# Altium integrated library All_Library1.IntLib: 44 symbols
Pins are listed as number, name and electrical type; pins without a type are passive.

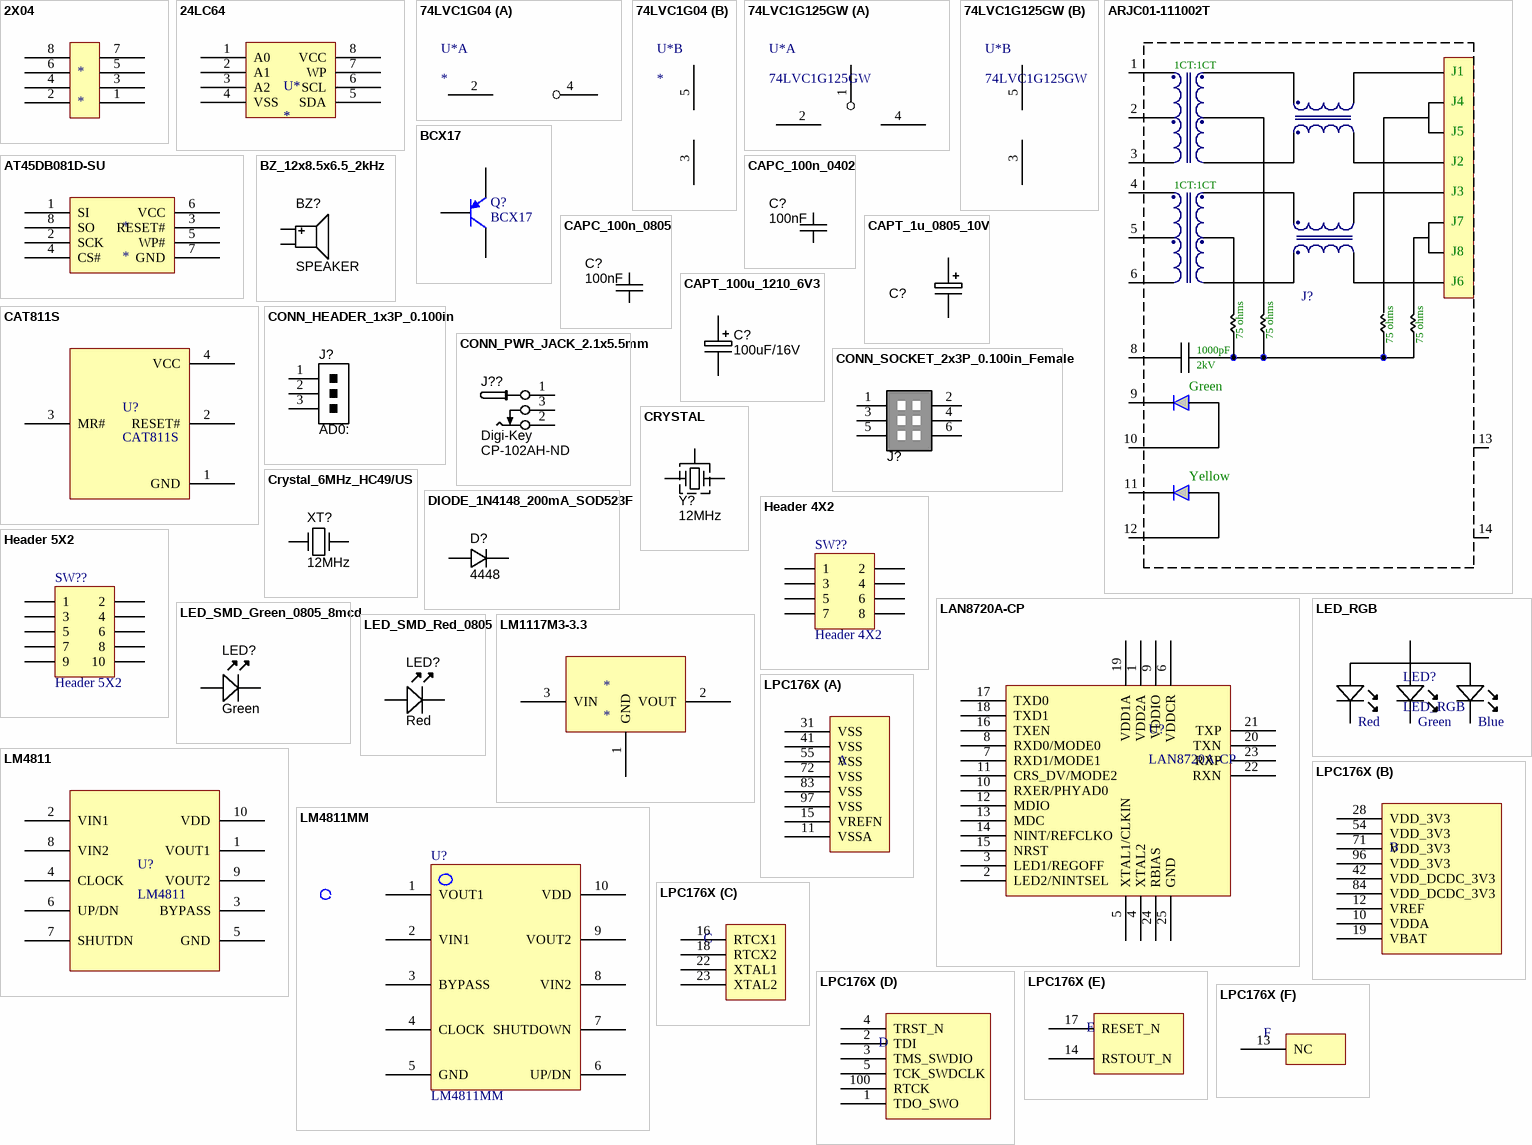
[diagram p0: symbols 2X04 to LPC176X]

## 2X04
designator *
pins: 1, 2, 3, 4, 5, 6, 7, 8

## 24LC64
designator U*
footprint TSSOP-ST8_M (TSOP, 8-Leads, Body 3x4.4mm, Pitch 0.65mm, IPC Low Density)
pins: 1 A0, 2 A1, 3 A2, 4 VSS, 5 SDA, 6 SCL, 7 WP, 8 VCC

## 74LVC1G04
designator U*
footprint SC70-LT5_N (SOT353, 5-Leads, Body 2x1.3mm, Pitch 0.65mm, Lead Span 2.1mm, IPC Medium Density)
part A pins: 2, 4
part B pins: 3 GND, 5 VCC

## 74LVC1G125GW
designator U*
footprint SC70-LT5_N (SOT353, 5-Leads, Body 2x1.3mm, Pitch 0.65mm, Lead Span 2.1mm, IPC Medium Density)
part A pins: 1 ~{OE}, 2 A, 4 Y
part B pins: 3 GND, 5 VCC

## ARJC01-111002T
designator J?
10/100 Base-Tx Tap Up RJ45 with LED
footprint ARJC01-111002T
pins: 1 TD+, 2 CTD, 3 TD-, 4 RD+, 5 CRD, 6 RD-, 8 Shield, 9, 10, 11, 12, 13 GND, 14 GND
text: 1CT:1CT; J1; J4; J5; J2; J3; J7; J8; J6; 75 ohms; 1000pF; 2kV; Green; Yellow

## AT45DB081D-SU
designator *
footprint TSSOP-ST8_N (TSOP, 8-Leads, Body 3x4.4mm, Pitch 0.65mm, IPC Medium Density)
pins: 1 SI, 2 SCK, 3 RESET#, 4 CS#, 5 WP#, 6 VCC, 7 GND, 8 SO

## BCX17
designator Q?
PNP General Purpose Transistors; Published: 8-Jun-2000; LatestRevisionDate: 15-Jan-2003; LatestRevisionNote: PCB Footprint 'BCY-W3/D4.7' replaced; DatasheetVersion: 1997; PackageVersion: Sep-1998; PackageReference: TO-92A; Publisher: Altium Limited; PackageDescription: TO, Flat Index; 3 In-Line, Axial Leads; Body Dia. 4.5mm; Leads 0.51 x 0.48 mm (max); ComponentLink1Description: Manufacturer Link; ComponentLink1URL: http://www.fairchildsemi.com/; ComponentLink2Description: Datasheet; ComponentLink2URL: http://www.fairchildsemi.com/ds/2N%2F2N3906.pdf
footprint SOT23-3N (SOT23, 3-Leads, Body 2.9x1.3mm, Pitch 0.95mm, Lead Span 2.5mm, IPC Medium Density)
pins: 1 B, 2 E, 3 C

## BZ_12x8.5x6.5_2kHz
designator BZ?, comment Manufacturer Part Number 1: SPEAKER  (hidden comment: Alternate part: 3100-932)
Speaker, Magnetic Transducer; Manufacturer 1: CUI Inc; Ratings: 2048 ?00 Hz; Package / Case: 6.5mm pitch; Material: Noryl SE1-J; Supplier 1: Digi-Key; Supplier Part Number 1: 102-1152-ND
footprint BUZZER_12.0X8.5MM
pins: 1 Positive, 2 Negative

## CAPC_100n_0402
designator C?, comment value 100nF  (hidden comment: approved sub OK)
Capacitor SMD Cer 100nF 10% 50V X7R 0805; Manufacturer 1: Kemet; Manufacturer Part Number 1: C0805C104K5RACTU; Tolerance: ?0%; Ratings: 50V; X7R; Material: ceramic; Package / Case: 0805 (2012 metric); Supplier 1: Digi-Key; Supplier Part Number 1: 399-1170-1-ND
footprint CAPC1005N (Chip Capacitor, Body 1.0x0.5mm, 0402, IPC Medium Density)
pins: 1, 2

## CAPC_100n_0805
designator C?, comment value 100nF  (hidden comment: approved sub OK)
Capacitor SMD Cer 100nF 10% 50V X7R 0805; Manufacturer 1: Kemet; Manufacturer Part Number 1: C0805C104K5RACTU; Tolerance: ?0%; Ratings: 50V; X7R; Material: ceramic; Package / Case: 0805 (2012 metric); Supplier 1: Digi-Key; Supplier Part Number 1: 399-1170-1-ND
footprint CAPC2012N (Chip Capacitor, Body 2.0x1.2mm, IPC Medium Density)
pins: 1, 2

## CAPT_1u_0805_10V
designator C?
Capacitor SMD Tantalum 1uF 20% 10V 0805; Manufacturer 1: AVX Corporation; Manufacturer Part Number 1: TAJP106M010RNJ; Manufacturer Size Code: P; Tolerance: ?0%; ESR (Equivalent Series Resistance): 6.000 Ohm; Type: Molded; Package / Case: 0805 (2012 metric); Material: Tantalum; Supplier 1: Digi-Key; Supplier Part Number 1: 478-3281-1-ND; Operating Temperat: -55蚓 ~ 125蚓; Size / Dimension: 0.081" L x 0.053" W (2.05mm x 1.35mm); Height - Seated (Max): 0.059" (1.50mm); ComponentLink1URL: http://www.avx.com/docs/Catalogs/tajlp.pdf; ComponentLink1Description: http://www.avx.com/docs/Catalogs/tajlp.pdf
footprint CAPMP2012X150USR (Molded body capacitor, Body 2.0x1.2mm, 0805, IPC Medium Density)
pins: 1, 2

## CAPT_100u_1210_6V3
designator C?
Capacitor SMD Tantalum 100uF 20% 6.3V 1210; Manufacturer 1: AVX Corporation; Manufacturer Part Number 1: TCJB107M006R0045; Tolerance: ?0%; Package / Case: 1210 (3528 Metric); Material: Tantalum; Supplier 1: Digi-Key; Supplier Part Number 1: 478-4711-1-ND
footprint CAPMP3528X210N (Molded body capacitor, Body 3.5x2.8mm, 1210, IPC Nominal settings)
pins: 1, 2
text: 100uF/16V

## CAT811S
designator U?
footprint SOT-143-R (SOT-143; 4 Leads; Body 3 x 2.6 mm, inc. leads (LxW max))
pins: 1 GND, 2 RESET#, 3 MR#, 4 VCC

## CONN_HEADER_1x3P_0.100in
designator J?  (value not drawn)
Pin Header, THT, Single-row, 2.54mm pitch; Manufacturer 1: 3M; Manufacturer Part Number 1: 929647-09-36-I; Pitch: 0.100" (2.54mm); Value: Single-row, 3 positions; QtyOverride: 0.1; Category: Connectors; Mounting Type: Through Hole; Terminal Block Type: Header, Male Pins, Single; Package / Case: Pin header; 2.54mm pitch
footprint 1x3POS_HEADER (Connector Header, Single-row 3-position, 0.100" pitch)
pins: 1, 2, 3

## CONN_PWR_JACK_2.1x5.5mm
designator J??  Supplier 1: Digi-Key  Supplier Part Number 1: CP-102AH-ND  (hidden comment: CONN_PWR_JACK_2.1x5.5mm)
Power Connector, THT, 2.1mm ID, 5.5mm OD; Manufacturer 1: CUI Inc; Manufacturer Part Number 1: PJ-102AH; Category: Connectors; Mounting Type: Through Hole; Package / Case: PCB mount; Value: 2.1mm ID, 5.5mm OD
footprint CONN_PWR_JACK_2.1x5.5mm (Power Connector, 2.1mm ID, 5.5mm OD)
pins: 1, 2, 3

## CONN_SOCKET_2x3P_0.100in_Female
designator J?, comment micro-match socket  (value not drawn)
Socket THD 6 POS Double-row 2.54mm pitch; Manufacturer 1: TE Connectivity; Manufacturer Part Number 1: 7-215079-6; Pitch: 0.100" (2.54mm); Value: Double-row, 14 positions; QtyOverride: 1; Connector Type: Receptacle; Number of Positions: 6; Package / Case: Connector header; 2.54mm pitch; Contact Type: Female Socket; Number of Rows: 2; Row Spacing: 0.100" (2.54mm); Contact Mating Length: 0.243" (6.17mm); ComponentLink1URL: http://multimedia.3m.com/mws/mediawebserver?66666UuZjcFSLXTtm8T_oxMcEVuQEcuZgVs6EVs6E666666--; ComponentLink1Description: http://multimedia.3m.com/mws/mediawebserver?66666UuZjcFSLXTtm8T_oxMcEVuQEcuZgVs6EVs6E666666--; Supplier 1: Digi-Key; Supplier Part Number 1: A30729CT-ND
footprint 6P_PCB_SOCKET_BRD_MNT_MICRO-MATCH (SOCKET MICRO-MATCH BRD MNT 6POS 2.54MM)
pins: 1, 2, 3, 4, 5, 6

## CRYSTAL
designator Y?, comment 12MHz
Oscillator Crystal; Manufacturer 1: TXC CORPORATION; Manufacturer Part Number 1: 7M-27.120MEEQ-T; Ratings: 4.9152 MHz Crystal; Frequency Stability: ?0ppm; Load Capacitance: 10pF; Operating Mode: Fundamental; Package / Case: 2.5mm pitch; Material: Ceramic; Supplier 1: Digi-Key; Supplier Part Number 1: 887-1329-1-ND; Type: MHz Crystal; Frequency Tolerance: ?0ppm; Operating Temperature: -20蚓 ~ 70蚓; Mounting Type: Surface Mount; Size / Dimension: 0.126" L x 0.098" W (3.20mm x 2.50mm); ComponentLink1URL: http://www.txccrystal.com/images/pdf/7m-accuracy.pdf; ComponentLink1Description: http://www.txccrystal.com/images/pdf/7m-accuracy.pdf
footprint 9HT7-32.768KDZF-T
pins: 1 X, 2 GND, 3 GND, 4 X

## Crystal_6MHz_HC49/US
designator XT?, comment 12MHz
Resonator Ceramic 6.00 MHz 30ppm; Manufacturer 1: CTS-Frequency Controls; Manufacturer Part Number 1: ATS060BSM-1; Frequency: 6MHz; Frequency Stability: ?0ppm; Load Capacitance: 18pF; Operating Mode: Fundamental; Parameter Name: 0.169" (4.30mm); Package / Case: HC49/US-SM; Ratings: 6.00 MHz; Supplier 1: Digi-Key; Supplier Part Number 1: CTX882CT-ND; Type: MHz Crystal; Frequency Tolerance: ?0ppm; Operating Temperature: -20蚓 ~ 70蚓; Mounting Type: Surface Mount; Size / Dimension: 0.437" L x 0.190" W (11.10mm x 4.83mm); ComponentLink1URL: http://www.ctscorp.com/components/Datasheets/008-0309-0.pdf; ComponentLink1Description: http://www.ctscorp.com/components/Datasheets/008-0309-0.pdf
footprint CRYSTAL_HC49-US-SM (SMD Crystal HC49/US-SM package)
pins: 1 IN, 2 OUT

## DIODE_1N4148_200mA_SOD523F
designator D?, comment 4448
Diode SMD small signal 0.2A SOD-523F; Ratings: Vr=75V; Vf=1V@10mA; Io=200mA; Material: Si; Package / Case: SC-79, SOD-523F; Supplier 1: Digi-Key; Supplier Part Number 1: 1N4148WTCT-ND; Value: 4448
footprint SOD523F (SOD-523F; 2 Leads; Body 1.3 x 0.9 mm, (LxW))
pins: A, K

## Header 4X2
designator SW??
Header, 4-Pin, Dual row; LatestRevisionDate: 17-Jul-2002; LatestRevisionNote: Re-released for DXP Platform.; Publisher: Altium Limited
footprint HDR2X4 (Connector; Header; 4x2 Position)
pins: 1, 2, 3, 4, 5, 6, 7, 8

## Header 5X2
designator SW??
Header, 5-Pin, Dual row; LatestRevisionDate: 17-Jul-2002; LatestRevisionNote: Re-released for DXP Platform.; Publisher: Altium Limited
footprint HDR2X5 (Connector; Header; 5x2 Position)
pins: 1, 2, 3, 4, 5, 6, 7, 8, 9, 10

## LAN8720A-CP
designator U?
footprint QFN-MJ24 (QFN, 24-Leads, Body 4x4mm, Pitch 0.5mm, Thermal Pad 2.6x2.6mm, Microchip Recommended)
pins: 1 VDD2A, 2 LED2/NINTSEL, 3 LED1/REGOFF, 4 XTAL2, 5 XTAL1/CLKIN, 6 VDDCR, 7 RXD1/MODE1, 8 RXD0/MODE0, 9 VDDIO, 10 RXER/PHYAD0, 11 CRS_DV/MODE2, 12 MDIO, 13 MDC, 14 NINT/REFCLKO, 15 NRST, 16 TXEN, 17 TXD0, 18 TXD1, 19 VDD1A, 20 TXN, 21 TXP, 22 RXN, 23 RXP, 24 RBIAS, 25 GND

## LED_RGB
designator LED?
footprint 4-PLCC (LED_RGB)
pins: B, G, R, VCC
text: Red; Green; Blue

## LED_SMD_Green_0805_8mcd
designator LED?, comment Green
LED, 0805 SMD, Green; Manufacturer 1: Ligitek; Manufacturer Part Number 1: LG-170PG-CT; Material: GaP; Ratings: 8 mcd; 558 nm; Package / Case: 0805
footprint LED-0805-K
pins: A, K

## LED_SMD_Red_0805
designator LED?, comment Red
LED, 0805 SMD, Red; Manufacturer 1: Ligitek; Manufacturer Part Number 1: LG170SR-CT; Material: GaAIAs; Ratings: 20 mcd; 643 nm; Package / Case: 0805
footprint LED-0805-A
pins: A, K

## LM1117M3-3.3
designator *
footprint SOT-223 (SOT-223/SC-73; 4 Leads; Body 6.7 x 7.3 mm, inc. leads (LxW max))
pins: 1 GND, 2 VOUT, 3 VIN

## LM4811
designator U?
footprint MSOP-UN10_M (TSSOP, 10-Leads, Body 3x3mm, Pitch 0.5mm, IPC Low Density)
pins: 1 VOUT1, 2 VIN1, 3 BYPASS, 4 CLOCK, 5 GND, 6 UP/DN, 7 SHUTDN, 8 VIN2, 9 VOUT2, 10 VDD

## LM4811MM
designator U?
footprint MSOP-UN10_N (TSSOP, 10-Leads, Body 3x3mm, Pitch 0.5mm, IPC Medium Density)
pins: 1 VOUT1, 2 VIN1, 3 BYPASS, 4 CLOCK, 5 GND, 6 UP/DN, 7 SHUTDOWN, 8 VIN2, 9 VOUT2, 10 VDD

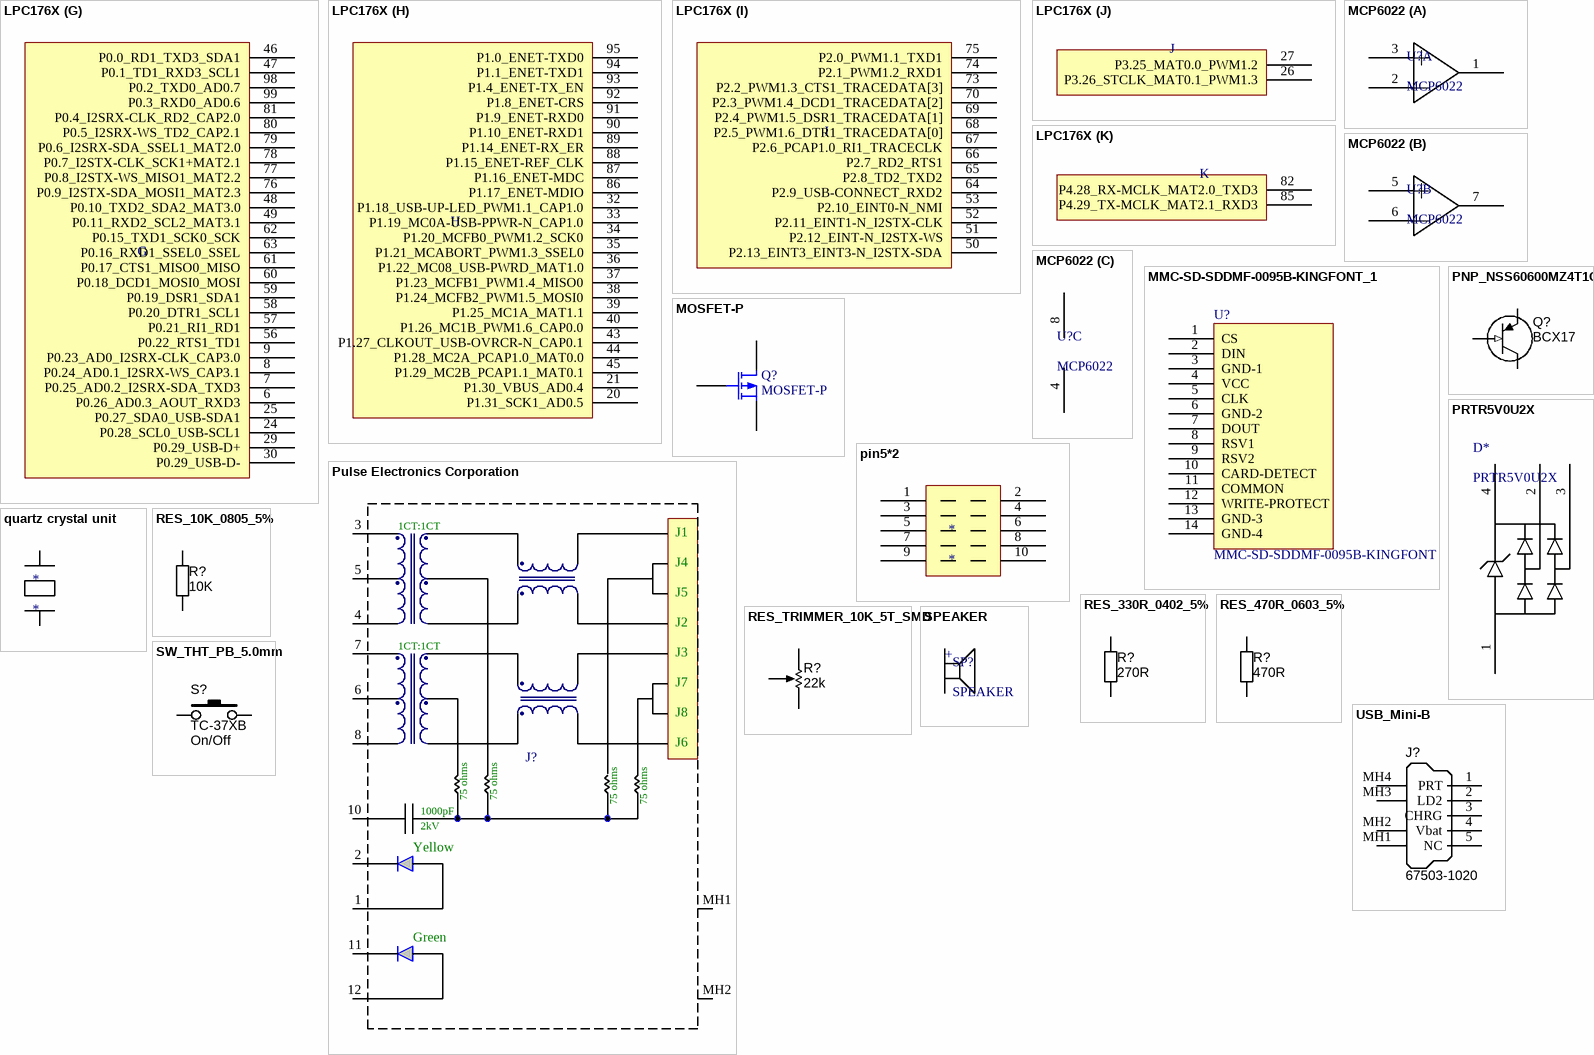
[diagram p1: symbols LPC176X to USB_Mini-B]

## LPC176X
designator ?
footprint SOT407-1_N (Thin QFP, 100-Leads, Body 14x14mm, Pitch 0.5mm, IPC Medium Density)
part A pins: 11 VSSA, 15 VREFN, 31 VSS, 41 VSS, 55 VSS, 72 VSS, 83 VSS, 97 VSS
part B pins: 10 VDDA, 12 VREF, 19 VBAT, 28 VDD_3V3, 42 VDD_DCDC_3V3, 54 VDD_3V3, 71 VDD_3V3, 84 VDD_DCDC_3V3, 96 VDD_3V3
part C pins: 16 RTCX1, 18 RTCX2, 22 XTAL1, 23 XTAL2
part D pins: 1 TDO_SWO, 2 TDI, 3 TMS_SWDIO, 4 TRST_N, 5 TCK_SWDCLK, 100 RTCK
part E pins: 14 RSTOUT_N, 17 RESET_N
part F pins: 13 NC
part G pins: 6 P0.26_AD0.3_AOUT_RXD3, 7 P0.25_AD0.2_I2SRX-SDA_TXD3, 8 P0.24_AD0.1_I2SRX-WS_CAP3.1, 9 P0.23_AD0_I2SRX-CLK_CAP3.0, 24 P0.28_SCL0_USB-SCL1, 25 P0.27_SDA0_USB-SDA1, 29 P0.29_USB-D+, 30 P0.29_USB-D-, 46 P0.0_RD1_TXD3_SDA1, 47 P0.1_TD1_RXD3_SCL1, 48 P0.10_TXD2_SDA2_MAT3.0, 49 P0.11_RXD2_SCL2_MAT3.1, 56 P0.22_RTS1_TD1, 57 P0.21_RI1_RD1, 58 P0.20_DTR1_SCL1, 59 P0.19_DSR1_SDA1, 60 P0.18_DCD1_MOSI0_MOSI, 61 P0.17_CTS1_MISO0_MISO, 62 P0.15_TXD1_SCK0_SCK, 63 P0.16_RXD1_SSEL0_SSEL, 76 P0.9_I2STX-SDA_MOSI1_MAT2.3, 77 P0.8_I2STX-WS_MISO1_MAT2.2, 78 P0.7_I2STX-CLK_SCK1+MAT2.1, 79 P0.6_I2SRX-SDA_SSEL1_MAT2.0, 80 P0.5_I2SRX-WS_TD2_CAP2.1, 81 P0.4_I2SRX-CLK_RD2_CAP2.0, 98 P0.2_TXD0_AD0.7, 99 P0.3_RXD0_AD0.6
part H pins: 20 P1.31_SCK1_AD0.5, 21 P1.30_VBUS_AD0.4, 32 P1.18_USB-UP-LED_PWM1.1_CAP1.0, 33 P1.19_MC0A-USB-PPWR-N_CAP1.0, 34 P1.20_MCFB0_PWM1.2_SCK0, 35 P1.21_MCABORT_PWM1.3_SSEL0, 36 P1.22_MC08_USB-PWRD_MAT1.0, 37 P1.23_MCFB1_PWM1.4_MISO0, 38 P1.24_MCFB2_PWM1.5_MOSI0, 39 P1.25_MC1A_MAT1.1, 40 P1.26_MC1B_PWM1.6_CAP0.0, 43 P1.27_CLKOUT_USB-OVRCR-N_CAP0.1, 44 P1.28_MC2A_PCAP1.0_MAT0.0, 45 P1.29_MC2B_PCAP1.1_MAT0.1, 86 P1.17_ENET-MDIO, 87 P1.16_ENET-MDC, 88 P1.15_ENET-REF_CLK, 89 P1.14_ENET-RX_ER, 90 P1.10_ENET-RXD1, 91 P1.9_ENET-RXD0, 92 P1.8_ENET-CRS, 93 P1.4_ENET-TX_EN, 94 P1.1_ENET-TXD1, 95 P1.0_ENET-TXD0
part I pins: 50 P2.13_EINT3_EINT3-N_I2STX-SDA, 51 P2.12_EINT-N_I2STX-WS, 52 P2.11_EINT1-N_I2STX-CLK, 53 P2.10_EINT0-N_NMI, 64 P2.9_USB-CONNECT_RXD2, 65 P2.8_TD2_TXD2, 66 P2.7_RD2_RTS1, 67 P2.6_PCAP1.0_RI1_TRACECLK, 68 P2.5_PWM1.6_DTR1_TRACEDATA[0], 69 P2.4_PWM1.5_DSR1_TRACEDATA[1], 70 P2.3_PWM1.4_DCD1_TRACEDATA[2], 73 P2.2_PWM1.3_CTS1_TRACEDATA[3], 74 P2.1_PWM1.2_RXD1, 75 P2.0_PWM1.1_TXD1
part J pins: 26 P3.26_STCLK_MAT0.1_PWM1.3, 27 P3.25_MAT0.0_PWM1.2
part K pins: 82 P4.28_RX-MCLK_MAT2.0_TXD3, 85 P4.29_TX-MCLK_MAT2.1_RXD3

## MCP6022
designator U?
footprint TSSOP-ST8_N (TSOP, 8-Leads, Body 3x4.4mm, Pitch 0.65mm, IPC Medium Density)
part A pins: 1 VOUTA, 2 VINA-, 3 VINA+
part B pins: 5 VINB+, 6 VINB-, 7 VOUTB
part C pins: 4 GND, 8 VDD

## MMC-SD-SDDMF-0095B-KINGFONT_1
designator U?, comment MMC-SD-SDDMF-0095B-KINGFONT
pins: 1 CS, 2 DIN, 3 GND-1, 4 VCC, 5 CLK, 6 GND-2, 7 DOUT, 8 RSV1, 9 RSV2, 10 CARD-DETECT, 11 COMMON, 12 WRITE-PROTECT, 13 GND-3, 14 GND-4

## MOSFET-P
designator Q?
P-Channel MOSFET; Published: 8-Jun-2000; LatestRevisionDate: 17-Jul-2002; LatestRevisionNote: Re-released for DXP Platform.; PackageVersion: 1995/1996; PackageReference: E3; Publisher: Altium Limited; PackageDescription: TO, Flat Index; 3 In-Line, Axial Leads; Body Dia. 4.6mm; Lead Dia. 0.5 mm (max)
footprint SOT23-3N (SOT23, 3-Leads, Body 2.9x1.3mm, Pitch 0.95mm, Lead Span 2.5mm, IPC Medium Density)
pins: 1 G, 2 S, 3 D

## pin5*2
designator *
pins: 1, 2, 3, 4, 5, 6, 7, 8, 9, 10

## PNP_NSS60600MZ4T1G
designator Q?, comment Manufacturer Part Number 1: BCX17  (hidden comment: PNP)
Transistor SMD PNP 60V 6A 800mW SOT-223; Manufacturer 1: ON Semiconductor; Ratings: 60V; 6A; 800mW; Material: Si; Package / Case: SOT-223; Transistor Type: PNP; Mounting Type: Surface Mount; Supplier 1: Digi-Key; Supplier Part Number 1: NSS60600MZ4T1GOSCT-ND
footprint SOT-223 (SOT-223/SC-73; 4 Leads; Body 6.7 x 7.3 mm, inc. leads (LxW max))
pins: 1 B (in), 2 C, 3 E, 4 C

## PRTR5V0U2X
designator D*
footprint SOT190P230X120-4N (SOT143, 4-Leads, Body 2.9x1.3mm, Pitch 1.9mm, Lead Span 2.3mm, IPC Medium Density)
pins: 1 GND, 2 I/O 1, 3 I/O 2, 4 VCC

## Pulse Electronics Corporation
designator J?, comment J3011G21DNL  (value not drawn)
10/100 Base-Tx Tap Up RJ45 with LED
footprint J3011G21DNL
pins: 1 10, 2 9, 3 TD+, 4 TD-, 5 CTD, 6 CRD, 7 RD+, 8 RD-, 10 Shield, 11, 12, MH1 GND, MH2 GND
text: 1CT:1CT; J1; J4; J5; J2; J3; J7; J8; J6; 75 ohms; 1000pF; 2kV; Yellow; Green

## quartz crystal unit
designator *

## RES_10K_0805_5%
designator R?, comment value 10K  (hidden comment: Thick Film)
Resistor SMD chip 10k Ohm 0.125W 5% 0805; Manufacturer 1: Yageo; Manufacturer Part Number 1: RC0805JR-0710KL; Ratings: 1/8 W; Tolerance: ?%; Package / Case: 0805 (2012 metric); Material: Thick Film; Supplier 1: Digi-Key; Supplier Part Number 1: 311-10KARCT-ND
footprint RESC2012N (Chip Resistor, Body 2.0x1.2mm, IPC Medium Density)
pins: 1, 2

## RES_330R_0402_5%
designator R?, comment value 270R  (hidden comment: Thick Film)
Resistor SMD chip 330 Ohm 0.063W 5% 0402; Manufacturer 1: Yageo; Manufacturer Part Number 1: RC0402JR-07330RL; Ratings: 1/16 W; Tolerance: ?%; Package / Case: 0402 (1005 Metric); Supplier 1: Digi-Key; Supplier Part Number 1: 311-330JRCT-ND; ComponentLink1URL: http://www.yageo.com/documents/recent/PYu-RC0402_51_RoHS_L_6.pdf; ComponentLink1Description: http://www.yageo.com/documents/recent/PYu-RC0402_51_RoHS_L_6.pdf
footprint RESC1005N (Chip Resistor, Body 1.0x0.5mm, EIA 0402, IPC Medium Density)
pins: 1, 2

## RES_470R_0603_5%
designator R?, comment value 470R  (hidden comment: Thick Film)
Resistor SMD chip 470 Ohm 0.1W 5% 0603; Manufacturer 1: Vishay/Dale; Manufacturer Part Number 1: CRCW0603470RJNEA; Ratings: 1/10 W; Tolerance: ?%; Package / Case: 0603 (1608 metric); Material: Thick Film; Supplier 1: Digi-Key; Supplier Part Number 1: 541-470GCT-ND
footprint RESC1608N (Chip Resistor, Body 1.6x0.8mm, IPC Medium Density)
pins: 1, 2

## RES_TRIMMER_10K_5T_SMD
designator R?  value 22k
Trimmer SMD 10K 250mW 5-turn Side-adjust; Manufacturer 1: Bourns Inc.; Manufacturer Part Number 1: 3214G-1-103E; Tolerance: 10%; Ratings: 5 turn variable cermet; Number of Turns: 5; Supplier 1: Digi-Key; Supplier Part Number 1: 3214G-1-103ECT-ND
footprint TrimPot_SMD_Bourns_3214G (Bourns- 3214G - TRIMMER)
pins: 1 CCW, 2 WIPER, 3 CW

## SPEAKER
designator SP?
text: +

## SW_THT_PB_5.0mm
designator S?  Manufacturer Part Number 1: TC-37XB  Function: On/Off  (hidden comment: SW_THT_PB_5.0mm)
Switch, tact, 5.0mm stem; Manufacturer 1: Wealth Metal; Package / Case: 6.5x6.5mm; 5.0mm stem; Material: Brass/Nylon/Ag plating
footprint TACT-SWITCH-TC-37XB (Wealth Metal sealed TH tact switch)
pins: 1, 2

## USB_Mini-B
designator J?  Manufacturer Part Number 1: 67503-1020  (hidden comment: USB_Mini-B)
Connector SMD USB Type Mini-B; Manufacturer 1: Molex Connector Corporation; Package / Case: SMD; Supplier 1: Digi-Key; Supplier Part Number 1: WM5461CT-ND
footprint USB_Mini-B_Molex_SMT
pins: 1 PRT, 2 LD2, 3 CHRG, 4 Vbat, 5 NC, MH1 Shell, MH2 Shell, MH3 Shell, MH4 Shell